# Altium schematic symbol library ISO6741DWR.SchLib: 1 symbol
Pins are listed as number, name and electrical type; pins without a type are passive.

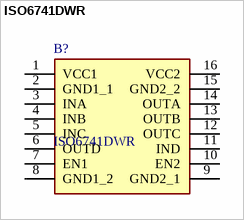
[diagram p0: symbol ISO6741DWR]

## ISO6741DWR
designator B?
ISO674x General Purpose Quad Channel Digital Isolators with Robust EMC; Manufacturer_Name: Texas Instruments; Geometry.Height: 2.65mm; Mouser Part Number: 595-ISO6741DWR; Mouser Price/Stock: https://www.mouser.co.uk/ProductDetail/Texas-Instruments/ISO6741DWR?qs=eP2BKZSCXI5uF%252B1Ns5yk%2Fw%3D%3D; Manufacturer_Part_Number: ISO6741DWR; Datasheet Link: https://www.ti.com/lit/ds/symlink/iso6741.pdf?ts=1612957387403&ref_url=https%253A%252F%252Fwww.mouser.co.uk%252F
footprint SOIC127P1030X265-16N
pins: 1 VCC1, 2 GND1_1, 3 INA, 4 INB, 5 INC, 6 OUTD, 7 EN1, 8 GND1_2, 9 GND2_1, 10 EN2, 11 IND, 12 OUTC, 13 OUTB, 14 OUTA, 15 GND2_2, 16 VCC2